# EAGLE library part CFPT-9006 (library IQD-Frequency-Products)
Temperature Compensated Xtal Oscillator
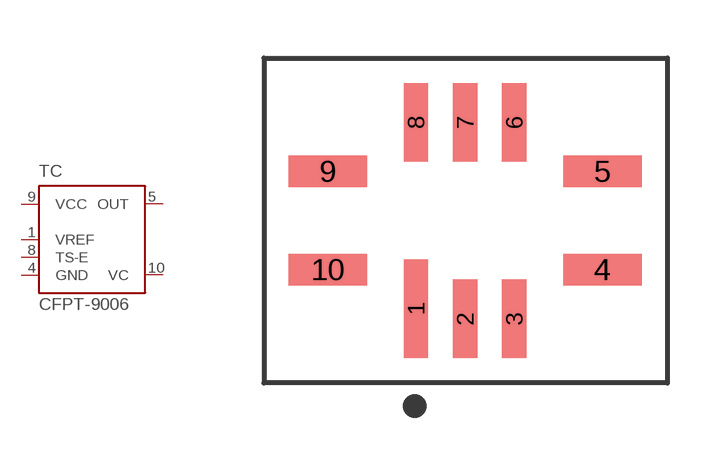
[diagram p0: symbol with the pads of 7.0X5.0-10-PAD; footprint 7.0X5.0-10-PAD]

Designator prefix TC

## CFPT-9006-CFPT-9006 (MFD: IQD Frequency Products)  [7.0X5.0-10-PAD]
1  VREF  out
4  GND  pwr
5  OUT  out
8  TS-E  in
9  VCC  pwr
10  VC  in

## Footprint 7.0X5.0-10-PAD (pad centres in mm)
IQD Frequency Products SMD Package
smd 0.63 x 2.54: 1 -1.27,-2.28
smd 0.63 x 2.03: 2 0,-2.54; 3 1.27,-2.54; 6 1.27,2.54; 7 0,2.54; 8 -1.27,2.54
smd 2.03 x 0.81: 4 3.55,-1.27; 5 3.55,1.27; 9 -3.55,1.27; 10 -3.55,-1.27